# Altium schematic symbol library nRF52833-QDAA-R.SchLib: 1 symbol
Pins are listed as number, name and electrical type; pins without a type are passive.

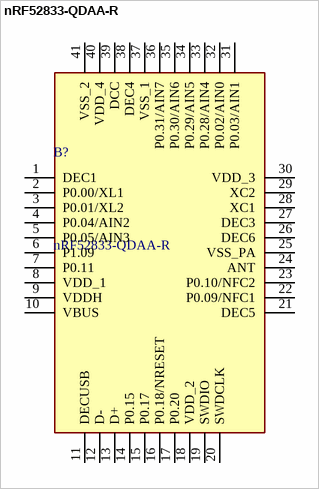
[diagram p0: symbol nRF52833-QDAA-R]

## nRF52833-QDAA-R
designator B?
RF System on a Chip - SoC nRF52833-QDAA QFN 40L 5x5; Manufacturer_Name: Nordic Semiconductor; Geometry.Height: 0.9mm; Mouser Part Number: 949-NRF52833-QDAA-R; Mouser Price/Stock: https://www.mouser.co.uk/ProductDetail/Nordic-Semiconductor/nRF52833-QDAA-R?qs=xZ%2FP%252Ba9zWqYrk%252Bfy26NOZQ%3D%3D; Manufacturer_Part_Number: nRF52833-QDAA-R; Datasheet Link: https://infocenter.nordicsemi.com/pdf/nRF52833_PS_v1.3.pdf
footprint QFN40P500X500X90-41N
pins: 1 DEC1, 2 P0.00/XL1, 3 P0.01/XL2, 4 P0.04/AIN2, 5 P0.05/AIN3, 6 P1.09, 7 P0.11, 8 VDD_1, 9 VDDH, 10 VBUS, 11 DECUSB, 12 D-, 13 D+, 14 P0.15, 15 P0.17, 16 P0.18/NRESET, 17 P0.20, 18 VDD_2, 19 SWDIO, 20 SWDCLK, 21 DEC5, 22 P0.09/NFC1, 23 P0.10/NFC2, 24 ANT, 25 VSS_PA, 26 DEC6, 27 DEC3, 28 XC1, 29 XC2, 30 VDD_3, 31 P0.03/AIN1, 32 P0.02/AIN0, 33 P0.28/AIN4, 34 P0.29/AIN5, 35 P0.30/AIN6, 36 P0.31/AIN7, 37 VSS_1, 38 DEC4, 39 DCC, 40 VDD_4, 41 VSS_2